# EAGLE library part TB6612FNG_MOTOR_DRIVER (library e-radionica_E-R MADE)
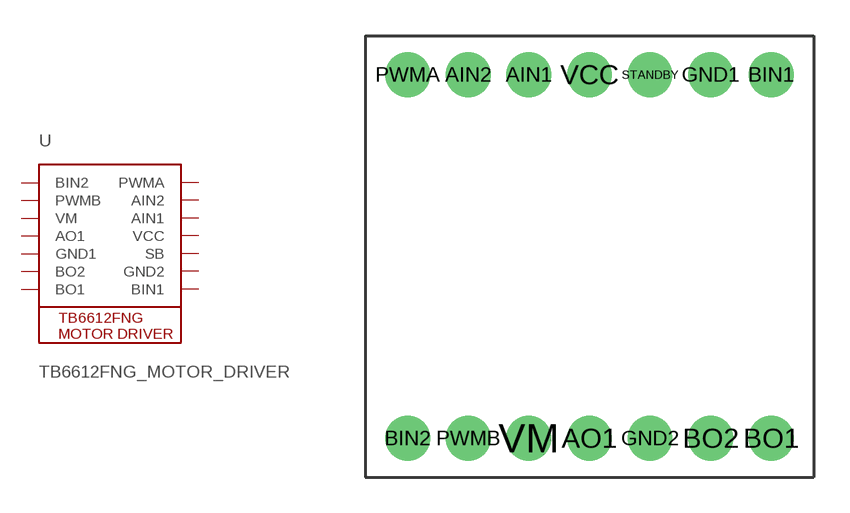
[diagram p12: symbol with the pads of TB6612FNG_MOTOR_DRIVER; footprint TB6612FNG_MOTOR_DRIVER]

Designator prefix -

## TB6612FNG_MOTOR_DRIVER  [TB6612FNG_MOTOR_DRIVER]
AIN1  AIN1
AIN2  AIN2
AO1  AO1  sup
BIN1  BIN1
BIN2  BIN2
BO1  BO1  sup
BO2  BO2  sup
GND1  GND1  sup
GND2  GND2  sup
PWMA  PWMA
PWMB  PWMB
STANDBY  SB
VCC  VCC  sup
VM  VM  sup

## Footprint TB6612FNG_MOTOR_DRIVER (pad centres in mm)
drill 1.016 pad 1.88: AIN1 6.858,16.87; AIN2 4.318,16.87; AO1 9.398,1.63; BIN1 17.018,16.87; BIN2 1.778,1.63; BO1 17.018,1.63; BO2 14.478,1.63; GND1 14.478,16.87; GND2 11.938,1.63; PWMA 1.778,16.87; PWMB 4.318,1.63; STANDBY 11.938,16.87; VCC 9.398,16.87; VM 6.858,1.63